# EAGLE library part 5HT-C (library inductor-toko)
HELICAL FILTER 5MM TOKO 5HT Series
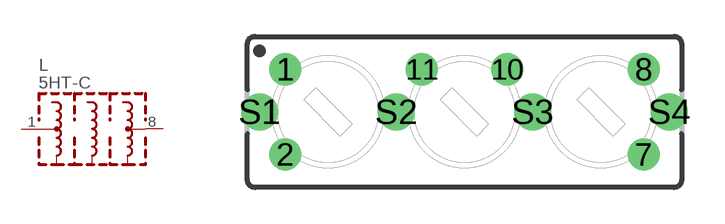
[diagram p3: symbol with the pads of 5HT-C; footprint 5HT-C]

Designator prefix L

## 5HT-C  [5HT-C]
1  1  pas
2  2  pas
7  7  pas
8  8  pas
11  11  pas
S1  S1  pas
S2  S2  pas
S3  S3  pas
S4  S4  pas

## Footprint 5HT-C (pad centres in mm)
HELICAL FILTER - TOKO Type 5HT- Triple Tuned
drill 0.813: 1 -7.35,1.75; 2 -7.35,-1.75; 7 7.35,-1.75; 8 7.35,1.75; 10 1.75,1.75; 11 -1.75,1.75
drill 1.016: S1 -8.4,0; S2 -2.8,0; S3 2.8,0; S4 8.4,0